# EAGLE library part ATMEGA165 (library atmel)
8-bit AVR Microcontroller 16 kbytes FLASH 1 kbytes SRAM 512 bytes EEPROM USART, SPI 8-channel 10 bit ADC
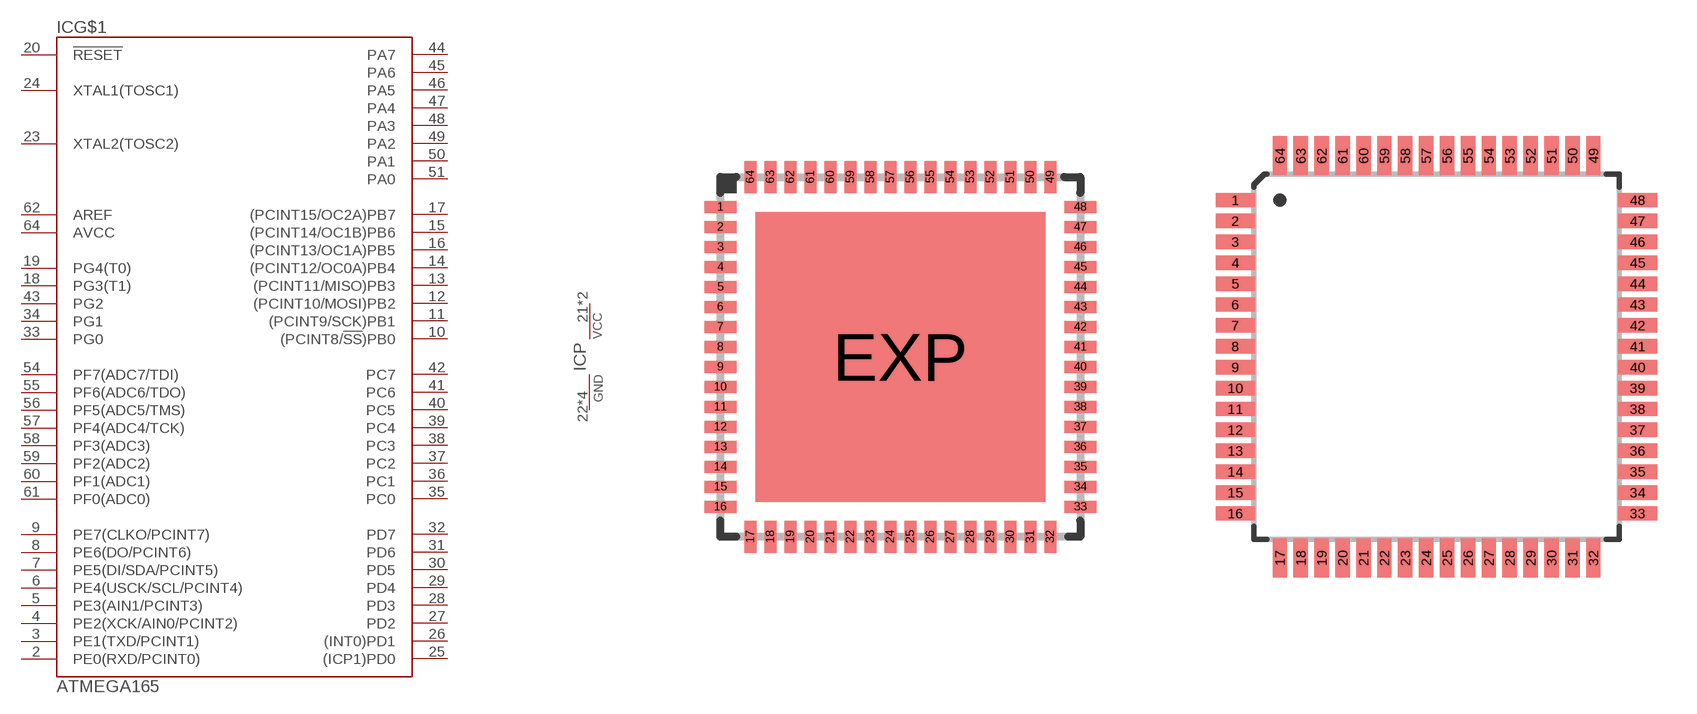
[diagram p46: symbol with the pads of QFN64_9X9_0.50; footprints QFN64_9X9_0.50, QFP64_14X14_0.80]

Designator prefix IC; gates G$1=MEGA165 P=PWR

## ATMEGA165-16MI, ATMEGA165V-8MI  [QFN64_9X9_0.50]
2  G$1:PE0(RXD/PCINT0)
3  G$1:PE1(TXD/PCINT1)
4  G$1:PE2(XCK/AIN0/PCINT2)
5  G$1:PE3(AIN1/PCINT3)
6  G$1:PE4(USCK/SCL/PCINT4)
7  G$1:PE5(DI/SDA/PCINT5)
8  G$1:PE6(DO/PCINT6)
9  G$1:PE7(CLKO/PCINT7)
10  G$1:(PCINT8/!SS!)PB0
11  G$1:(PCINT9/SCK)PB1
12  G$1:(PCINT10/MOSI)PB2
13  G$1:(PCINT11/MISO)PB3
14  G$1:(PCINT12/OC0A)PB4
15  G$1:(PCINT14/OC1B)PB6
16  G$1:(PCINT13/OC1A)PB5
17  G$1:(PCINT15/OC2A)PB7
18  G$1:PG3(T1)
19  G$1:PG4(T0)
20  G$1:!RESET!  in
21  P:VCC  pwr
22  P:GND  pwr
23  G$1:XTAL2(TOSC2)
24  G$1:XTAL1(TOSC1)
25  G$1:(ICP1)PD0
26  G$1:(INT0)PD1
27  G$1:PD2
28  G$1:PD3
29  G$1:PD4
30  G$1:PD5
31  G$1:PD6
32  G$1:PD7
33  G$1:PG0
34  G$1:PG1
35  G$1:PC0
36  G$1:PC1
37  G$1:PC2
38  G$1:PC3
39  G$1:PC4
40  G$1:PC5
41  G$1:PC6
42  G$1:PC7
43  G$1:PG2
44  G$1:PA7
45  G$1:PA6
46  G$1:PA5
47  G$1:PA4
48  G$1:PA3
49  G$1:PA2
50  G$1:PA1
51  G$1:PA0
52  P:VCC  pwr
53  P:GND  pwr
54  G$1:PF7(ADC7/TDI)
55  G$1:PF6(ADC6/TDO)
56  G$1:PF5(ADC5/TMS)
57  G$1:PF4(ADC4/TCK)
58  G$1:PF3(ADC3)
59  G$1:PF2(ADC2)
60  G$1:PF1(ADC1)
61  G$1:PF0(ADC0)
62  G$1:AREF  pas
63  P:GND  pwr
64  G$1:AVCC  pwr
EXP  P:GND  pwr

## ATMEGA165-16MU, ATMEGA165V-8MU  [QFN64_9X9_0.50]
Pads as for QFN64_9X9_0.50

## ATMEGA165-16AI, ATMEGA165V-8AI  [QFP64_14X14_0.80]
2  G$1:PE0(RXD/PCINT0)
3  G$1:PE1(TXD/PCINT1)
4  G$1:PE2(XCK/AIN0/PCINT2)
5  G$1:PE3(AIN1/PCINT3)
6  G$1:PE4(USCK/SCL/PCINT4)
7  G$1:PE5(DI/SDA/PCINT5)
8  G$1:PE6(DO/PCINT6)
9  G$1:PE7(CLKO/PCINT7)
10  G$1:(PCINT8/!SS!)PB0
11  G$1:(PCINT9/SCK)PB1
12  G$1:(PCINT10/MOSI)PB2
13  G$1:(PCINT11/MISO)PB3
14  G$1:(PCINT12/OC0A)PB4
15  G$1:(PCINT14/OC1B)PB6
16  G$1:(PCINT13/OC1A)PB5
17  G$1:(PCINT15/OC2A)PB7
18  G$1:PG3(T1)
19  G$1:PG4(T0)
20  G$1:!RESET!  in
21  P:VCC  pwr
22  P:GND  pwr
23  G$1:XTAL2(TOSC2)
24  G$1:XTAL1(TOSC1)
25  G$1:(ICP1)PD0
26  G$1:(INT0)PD1
27  G$1:PD2
28  G$1:PD3
29  G$1:PD4
30  G$1:PD5
31  G$1:PD6
32  G$1:PD7
33  G$1:PG0
34  G$1:PG1
35  G$1:PC0
36  G$1:PC1
37  G$1:PC2
38  G$1:PC3
39  G$1:PC4
40  G$1:PC5
41  G$1:PC6
42  G$1:PC7
43  G$1:PG2
44  G$1:PA7
45  G$1:PA6
46  G$1:PA5
47  G$1:PA4
48  G$1:PA3
49  G$1:PA2
50  G$1:PA1
51  G$1:PA0
52  P:VCC  pwr
53  P:GND  pwr
54  G$1:PF7(ADC7/TDI)
55  G$1:PF6(ADC6/TDO)
56  G$1:PF5(ADC5/TMS)
57  G$1:PF4(ADC4/TCK)
58  G$1:PF3(ADC3)
59  G$1:PF2(ADC2)
60  G$1:PF1(ADC1)
61  G$1:PF0(ADC0)
62  G$1:AREF  pas
63  P:GND  pwr
64  G$1:AVCC  pwr

## ATMEGA165-16AU, ATMEGA165V-8AU  [QFP64_14X14_0.80]
Pads as for QFP64_14X14_0.80

## Footprint QFN64_9X9_0.50 (pad centres in mm)
64-Lead Plastic QFN, 9mm x 9mm body, 0.5mm lead pitch, exposed pad 0.40mm lead length ATMEL Code: 64M1
smd 0.8 x 0.3: 1 -4.5,3.75; 2 -4.5,3.25; 3 -4.5,2.75; 4 -4.5,2.25; 5 -4.5,1.75; 6 -4.5,1.25; 7 -4.5,0.75; 8 -4.5,0.25; 9 -4.5,-0.25; 10 -4.5,-0.75; 11 -4.5,-1.25; 12 -4.5,-1.75; 13 -4.5,-2.25; 14 -4.5,-2.75; 15 -4.5,-3.25; 16 -4.5,-3.75; 33 4.5,-3.75; 34 4.5,-3.25; 35 4.5,-2.75; 36 4.5,-2.25; 37 4.5,-1.75; 38 4.5,-1.25; 39 4.5,-0.75; 40 4.5,-0.25; 41 4.5,0.25; 42 4.5,0.75; 43 4.5,1.25; 44 4.5,1.75; 45 4.5,2.25; 46 4.5,2.75; 47 4.5,3.25; 48 4.5,3.75
smd 0.3 x 0.8: 17 -3.75,-4.5; 18 -3.25,-4.5; 19 -2.75,-4.5; 20 -2.25,-4.5; 21 -1.75,-4.5; 22 -1.25,-4.5; 23 -0.75,-4.5; 24 -0.25,-4.5; 25 0.25,-4.5; 26 0.75,-4.5; 27 1.25,-4.5; 28 1.75,-4.5; 29 2.25,-4.5; 30 2.75,-4.5; 31 3.25,-4.5; 32 3.75,-4.5; 49 3.75,4.5; 50 3.25,4.5; 51 2.75,4.5; 52 2.25,4.5; 53 1.75,4.5; 54 1.25,4.5; 55 0.75,4.5; 56 0.25,4.5; 57 -0.25,4.5; 58 -0.75,4.5; 59 -1.25,4.5; 60 -1.75,4.5; 61 -2.25,4.5; 62 -2.75,4.5; 63 -3.25,4.5; 64 -3.75,4.5
smd 7.25 x 7.25: EXP 0,0

## Footprint QFP64_14X14_0.80 (pad centres in mm)
Thin Plasic Quad Flat Package, 14mm x 14mm body, 0.80mm lead pitch JEDEC: MS-026 AEB ATMEL Code: 64A
smd 1.5 x 0.55: 1 -7.7,6; 2 -7.7,5.2; 3 -7.7,4.4; 4 -7.7,3.6; 5 -7.7,2.8; 6 -7.7,2; 7 -7.7,1.2; 8 -7.7,0.4; 9 -7.7,-0.4; 10 -7.7,-1.2; 11 -7.7,-2; 12 -7.7,-2.8; 13 -7.7,-3.6; 14 -7.7,-4.4; 15 -7.7,-5.2; 16 -7.7,-6; 33 7.7,-6; 34 7.7,-5.2; 35 7.7,-4.4; 36 7.7,-3.6; 37 7.7,-2.8; 38 7.7,-2; 39 7.7,-1.2; 40 7.7,-0.4; 41 7.7,0.4; 42 7.7,1.2; 43 7.7,2; 44 7.7,2.8; 45 7.7,3.6; 46 7.7,4.4; 47 7.7,5.2; 48 7.7,6
smd 0.55 x 1.5: 17 -6,-7.7; 18 -5.2,-7.7; 19 -4.4,-7.7; 20 -3.6,-7.7; 21 -2.8,-7.7; 22 -2,-7.7; 23 -1.2,-7.7; 24 -0.4,-7.7; 25 0.4,-7.7; 26 1.2,-7.7; 27 2,-7.7; 28 2.8,-7.7; 29 3.6,-7.7; 30 4.4,-7.7; 31 5.2,-7.7; 32 6,-7.7; 49 6,7.7; 50 5.2,7.7; 51 4.4,7.7; 52 3.6,7.7; 53 2.8,7.7; 54 2,7.7; 55 1.2,7.7; 56 0.4,7.7; 57 -0.4,7.7; 58 -1.2,7.7; 59 -2,7.7; 60 -2.8,7.7; 61 -3.6,7.7; 62 -4.4,7.7; 63 -5.2,7.7; 64 -6,7.7